# Altium schematic symbol library vaja_1_lib.SchLib: 2 symbols
Pins are listed as number, name and electrical type; pins without a type are passive.

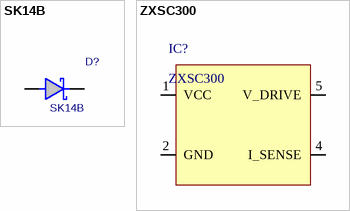
[diagram p0: symbols SK14B to ZXSC300]

## SK14B
designator D?
Schottky; Value: *
footprint DO-214AC_SMA_L (Diode, Molded Body; 5.20 mm L X 2.55 mm W X 3.00 mm H body); pin to pad 1>C 2>A
footprint DO-214AC_SMA_M (Diode, Molded Body; 5.20 mm L X 2.55 mm W X 3.00 mm H body); pin to pad 1>C 2>A
footprint DO-214AC_SMA_N (Diode, Molded Body; 5.20 mm L X 2.55 mm W X 3.00 mm H body); pin to pad 1>C 2>A
footprint DO-214AA_SMB_L (Footprint not found)
pins: 1 K, 2 A

## ZXSC300
designator IC?
Led driver IC
footprint SOT23-5 (Footprint not found)
pins: 1 VCC, 2 GND, 4 I_SENSE, 5 V_DRIVE